# Altium footprint library V004.PcbLib: 4 footprints
Each footprint in its own frame and in the unit in brackets; x right, y up, seen from the top. Pads: shape width x height; smd on the part's side, far side on the other; paste and mask are expansions set on the pad; w line width, h text height; cw(c..) or ccw(c..) is an arc to the next point about the centre after c.
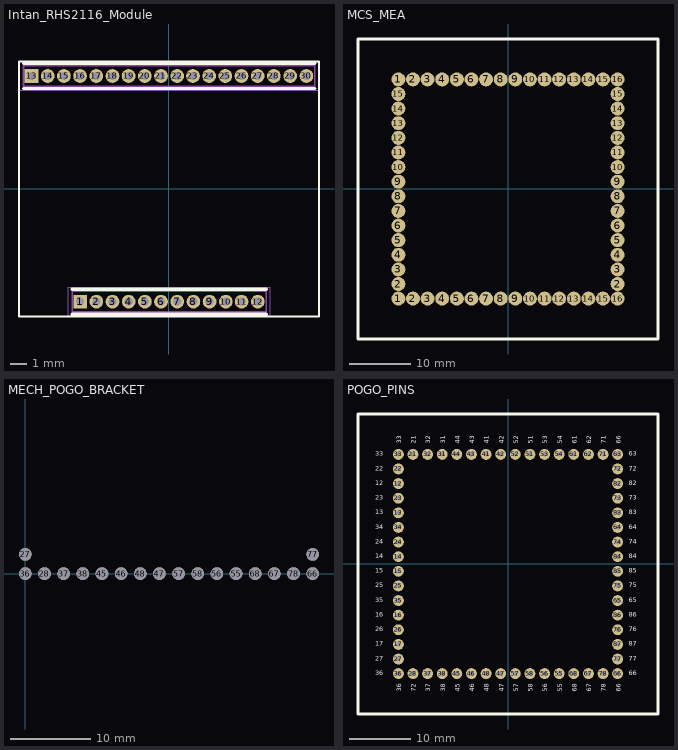
[diagram p0: the footprints below, top view; thin cyan lines are the x and y axes]

## Intan_RHS2116_Module [mm]
pads (30):
  rect 0.85x0.85 hole 0.5: 1(-5.488,-6.974) 13(-8.494,6.975)
  round 0.85 hole 0.5: 2(-4.488,-6.974) 3(-3.488,-6.974) 4(-2.488,-6.974) 5(-1.488,-6.974) 6(-0.488,-6.974) 7(0.512,-6.974) 8(1.512,-6.974) 9(2.512,-6.974) 10(3.512,-6.974) 11(4.489,-6.974) 12(5.489,-6.974) 14(-7.494,6.975) 15(-6.494,6.975) 16(-5.494,6.975) 17(-4.494,6.975) 18(-3.494,6.975) 19(-2.494,6.975) 20(-1.494,6.975) 21(-0.494,6.975) 22(0.506,6.975) 23(1.483,6.975) 24(2.483,6.975) 25(3.483,6.975) 26(4.483,6.975) 27(5.483,6.975) 28(6.483,6.975) 29(7.494,6.975) 30(8.494,6.975)
Top Layer:
  lines w0.254: -0.494,6.975 -0.38,6.86 ; 1.483,6.813 1.483,6.975 ; 4.483,6.884 4.483,6.975 ; 5.463,6.955 5.483,6.975
  lines w0.381: -1.443,-6.974 -1.443,-6.892 ; -0.443,-6.974 -0.443,-6.892 ; 0.467,-6.885 0.557,-6.974 ; 1.467,-6.885 1.557,-6.974 ; 3.526,-6.944 3.557,-6.974
Mid-Layer 1:
  lines w0.635: -5.551,-6.867 -5.443,-6.974 ; -4.484,-6.933 -4.443,-6.974 ; -3.443,-6.974 -3.443,-6.916
  lines w0.762: -2.46,-6.958 -2.443,-6.974
Top Overlay:
  lines w0.127: -9.269,-7.884 -9.269,7.864 9.273,7.864 9.273,-7.884 -9.269,-7.884
  lines w0.2: -8.994,6.2 9.006,6.2 ; -8.994,7.75 9.006,7.75 ; -5.988,-7.749 6.012,-7.749 ; -5.988,-6.199 6.012,-6.199
Top 3D Body:
  lines w0.1: -8.994,6.34 -8.994,7.61 9.006,7.61 9.006,6.34 -8.994,6.34 ; -5.988,-7.609 -5.988,-6.339 6.012,-6.339 6.012,-7.609 -5.988,-7.609
Top Courtyard:
  lines w0.05: 6.262,-7.859 -6.238,-7.859 -6.238,-6.09 6.262,-6.09 ; 6.262,-7.859 6.262,-6.09 ; 6.262,-7.859 6.262,-6.09 ; -9.244,6.09 -9.244,7.86 9.255,7.86 9.255,6.09 -9.244,6.09
3D body "Module_AFE.step": height 3.2, standoff -2.8, extent -9.269,-7.884 9.273,7.864

## MCS_MEA [mil]
pads (60):
  round 90 smd: 1(-705,-705) 1(-705,705) 2(-705,-611) 2(-611,-705) 2(-611,705) 2(705,-611) 3(-705,-517) 3(-517,-705) 3(-517,705) 3(705,-517) 4(-705,-423) 4(-423,-705) 4(-423,705) 4(705,-423) 5(-705,-329) 5(-329,-705) 5(-329,705) 5(705,-329) 6(-705,-235) 6(-235,-705) 6(-235,705) 6(705,-235) 7(-705,-141) 7(-141,-705) 7(-141,705) 7(705,-141) 8(-705,-47) 8(-47,-705) 8(-47,705) 8(705,-47) 9(-705,47) 9(47,-705) 9(47,705) 9(705,47) 10(-705,141) 10(141,-705) 10(141,705) 10(705,141) 11(-705,235) 11(235,-705) 11(235,705) 11(705,235) 12(-705,329) 12(329,-705) 12(329,705) 12(705,329) 13(-705,423) 13(423,-705) 13(423,705) 13(705,423) 14(-705,517) 14(517,-705) 14(517,705) 14(705,517) 15(-705,611) 15(611,-705) 15(611,705) 15(705,611) 16(705,-705) 16(705,705)
Top Overlay:
  lines w19.68: -964.57,-964.57 -964.57,964.57 964.57,964.57 964.57,-964.57 -964.57,-964.57

## MECH_POGO_BRACKET [mil]
pads (18):
  round 62 hole 62: 27(0,94) 28(94,0) 36(0,0) 37(188,0) 38(282,0) 45(376,0) 46(470,0) 47(658,0) 48(564,0) 55(1034,0) 56(940,0) 57(752,0) 58(846,0) 66(1410,0) 67(1222,0) 68(1128,0) 77(1410,94) 78(1316,0)

## POGO_PINS [mil]
pads (60):
  round 70 hole 29: 12(-705,517) 13(-705,329) 14(-705,47) 15(-705,-47) 16(-705,-329) 17(-705,-517) 21(-611,705) 22(-705,611) 23(-705,423) 24(-705,141) 25(-705,-141) 26(-705,-423) 27(-705,-611) 28(-611,-705) 31(-423,705) 32(-517,705) 33(-705,705) 34(-705,235) 35(-705,-235) 36(-705,-705) 37(-517,-705) 38(-423,-705) 41(-141,705) 42(-47,705) 43(-235,705) 44(-329,705) 45(-329,-705) 46(-235,-705) 47(-47,-705) 48(-141,-705) 51(141,705) 52(47,705) 53(235,705) 54(329,705) 55(329,-705) 56(235,-705) 57(47,-705) 58(141,-705) 61(423,705) 62(517,705) 63(705,705) 64(705,235) 65(705,-235) 66(705,-705) 67(517,-705) 68(423,-705) 71(611,705) 72(705,611) 73(705,423) 74(705,141) 75(705,-141) 76(705,-423) 77(705,-611) 78(611,-705) 82(705,517) 83(705,329) 84(705,47) 85(705,-47) 86(705,-329) 87(705,-517)
Top Overlay:
  lines w19.68: -964.57,-964.57 -964.57,964.57 964.57,964.57 964.57,-964.57 -964.57,-964.57
  text "66" at 723.5,774.85 h30
  text "71" at 629.5,774.85 h30
  text "62" at 535.5,774.85 h30
  text "61" at 441.5,774.85 h30
  text "54" at 347.5,774.85 h30
  text "53" at 253.5,774.85 h30
  text "51" at 159.5,774.85 h30
  text "52" at 65.5,774.85 h30
  text "42" at -28.5,774.85 h30
  text "41" at -122.5,774.85 h30
  text "43" at -216.5,774.85 h30
  text "44" at -310.5,774.85 h30
  text "31" at -404.5,774.85 h30
  text "32" at -498.5,774.85 h30
  text "21" at -592.5,774.85 h30
  text "33" at -686.5,774.85 h30
  text "66" at 723.5,-820.15 h30
  text "78" at 629.5,-820.15 h30
  text "67" at 535.5,-820.15 h30
  text "68" at 441.5,-820.15 h30
  text "55" at 347.5,-820.15 h30
  text "56" at 253.5,-820.15 h30
  text "58" at 159.5,-820.15 h30
  text "57" at 65.5,-820.15 h30
  text "47" at -28.5,-820.15 h30
  text "48" at -122.5,-820.15 h30
  text "46" at -216.5,-820.15 h30
  text "45" at -310.5,-820.15 h30
  text "38" at -404.5,-820.15 h30
  text "37" at -498.5,-820.15 h30
  text "72" at -592.5,-820.15 h30
  text "36" at -686.5,-820.15 h30
  text "66" at 775,-715 h30
  text "77" at 775,-621 h30
  text "87" at 775,-527 h30
  text "76" at 775,-433 h30
  text "86" at 775,-339 h30
  text "65" at 775,-245 h30
  text "75" at 775,-151 h30
  text "85" at 775,-57 h30
  text "84" at 775,37 h30
  text "74" at 775,131 h30
  text "64" at 775,225 h30
  text "83" at 775,319 h30
  text "73" at 775,413 h30
  text "82" at 775,507 h30
  text "72" at 775,601 h30
  text "63" at 775,695 h30
  text "36" at -855,-715 h30
  text "27" at -855,-621 h30
  text "17" at -855,-527 h30
  text "26" at -855,-433 h30
  text "16" at -855,-339 h30
  text "35" at -855,-245 h30
  text "25" at -855,-151 h30
  text "15" at -855,-57 h30
  text "14" at -855,37 h30
  text "24" at -855,131 h30
  text "34" at -855,225 h30
  text "13" at -855,319 h30
  text "23" at -855,413 h30
  text "12" at -855,507 h30
  text "22" at -855,601 h30
  text "33" at -855,695 h30
3D body "mill-max-0914-0-15-20-77-14-11-0.step": height 87, standoff -330, extent -741,-741 -669,-669
3D body "mill-max-0914-0-15-20-77-14-11-0.step": height 87, standoff -330, extent -647,-741 -575,-669
3D body "mill-max-0914-0-15-20-77-14-11-0.step": height 87, standoff -330, extent -553,-741 -481,-669
3D body "mill-max-0914-0-15-20-77-14-11-0.step": height 87, standoff -330, extent -459,-741 -387,-669
3D body "mill-max-0914-0-15-20-77-14-11-0.step": height 87, standoff -330, extent -365,-741 -293,-669
3D body "mill-max-0914-0-15-20-77-14-11-0.step": height 87, standoff -330, extent -271,-741 -199,-669
3D body "mill-max-0914-0-15-20-77-14-11-0.step": height 87, standoff -330, extent -177,-741 -105,-669
3D body "mill-max-0914-0-15-20-77-14-11-0.step": height 87, standoff -330, extent -83,-741 -11,-669
3D body "mill-max-0914-0-15-20-77-14-11-0.step": height 87, standoff -330, extent 11,-741 83,-669
3D body "mill-max-0914-0-15-20-77-14-11-0.step": height 87, standoff -330, extent 105,-741 177,-669
3D body "mill-max-0914-0-15-20-77-14-11-0.step": height 87, standoff -330, extent 199,-741 271,-669
3D body "mill-max-0914-0-15-20-77-14-11-0.step": height 87, standoff -330, extent 293,-741 365,-669
3D body "mill-max-0914-0-15-20-77-14-11-0.step": height 87, standoff -330, extent 387,-741 459,-669
3D body "mill-max-0914-0-15-20-77-14-11-0.step": height 87, standoff -330, extent 481,-741 553,-669
3D body "mill-max-0914-0-15-20-77-14-11-0.step": height 87, standoff -330, extent 575,-741 647,-669
3D body "mill-max-0914-0-15-20-77-14-11-0.step": height 87, standoff -330, extent 669,-741 741,-669
3D body "mill-max-0914-0-15-20-77-14-11-0.step": height 87, standoff -330, extent 669,-647 741,-575
3D body "mill-max-0914-0-15-20-77-14-11-0.step": height 87, standoff -330, extent 669,-553 741,-481
3D body "mill-max-0914-0-15-20-77-14-11-0.step": height 87, standoff -330, extent 669,-459 741,-387
3D body "mill-max-0914-0-15-20-77-14-11-0.step": height 87, standoff -330, extent 669,-365 741,-293
3D body "mill-max-0914-0-15-20-77-14-11-0.step": height 87, standoff -330, extent -741,-647 -669,-575
3D body "mill-max-0914-0-15-20-77-14-11-0.step": height 87, standoff -330, extent -741,-553 -669,-481
3D body "mill-max-0914-0-15-20-77-14-11-0.step": height 87, standoff -330, extent -741,-459 -669,-387
3D body "mill-max-0914-0-15-20-77-14-11-0.step": height 87, standoff -330, extent -741,-365 -669,-293
3D body "mill-max-0914-0-15-20-77-14-11-0.step": height 87, standoff -330, extent -741,-271 -669,-199
3D body "mill-max-0914-0-15-20-77-14-11-0.step": height 87, standoff -330, extent -741,-177 -669,-105
3D body "mill-max-0914-0-15-20-77-14-11-0.step": height 87, standoff -330, extent -741,-83 -669,-11
3D body "mill-max-0914-0-15-20-77-14-11-0.step": height 87, standoff -330, extent -741,11 -669,83
3D body "mill-max-0914-0-15-20-77-14-11-0.step": height 87, standoff -330, extent -741,105 -669,177
3D body "mill-max-0914-0-15-20-77-14-11-0.step": height 87, standoff -330, extent -741,199 -669,271
3D body "mill-max-0914-0-15-20-77-14-11-0.step": height 87, standoff -330, extent -741,293 -669,365
3D body "mill-max-0914-0-15-20-77-14-11-0.step": height 87, standoff -330, extent -741,387 -669,459
3D body "mill-max-0914-0-15-20-77-14-11-0.step": height 87, standoff -330, extent -741,481 -669,553
3D body "mill-max-0914-0-15-20-77-14-11-0.step": height 87, standoff -330, extent -741,575 -669,647
3D body "mill-max-0914-0-15-20-77-14-11-0.step": height 87, standoff -330, extent -741,669 -669,741
3D body "mill-max-0914-0-15-20-77-14-11-0.step": height 87, standoff -330, extent -647,669 -575,741
3D body "mill-max-0914-0-15-20-77-14-11-0.step": height 87, standoff -330, extent -553,669 -481,741
3D body "mill-max-0914-0-15-20-77-14-11-0.step": height 87, standoff -330, extent -459,669 -387,741
3D body "mill-max-0914-0-15-20-77-14-11-0.step": height 87, standoff -330, extent -365,669 -293,741
3D body "mill-max-0914-0-15-20-77-14-11-0.step": height 87, standoff -330, extent -271,669 -199,741
3D body "mill-max-0914-0-15-20-77-14-11-0.step": height 87, standoff -330, extent -177,669 -105,741
3D body "mill-max-0914-0-15-20-77-14-11-0.step": height 87, standoff -330, extent -83,669 -11,741
3D body "mill-max-0914-0-15-20-77-14-11-0.step": height 87, standoff -330, extent 11,669 83,741
3D body "mill-max-0914-0-15-20-77-14-11-0.step": height 87, standoff -330, extent 105,669 177,741
3D body "mill-max-0914-0-15-20-77-14-11-0.step": height 87, standoff -330, extent 199,669 271,741
3D body "mill-max-0914-0-15-20-77-14-11-0.step": height 87, standoff -330, extent 293,669 365,741
3D body "mill-max-0914-0-15-20-77-14-11-0.step": height 87, standoff -330, extent 387,669 459,741
3D body "mill-max-0914-0-15-20-77-14-11-0.step": height 87, standoff -330, extent 481,669 553,741
3D body "mill-max-0914-0-15-20-77-14-11-0.step": height 87, standoff -330, extent 575,669 647,741
3D body "mill-max-0914-0-15-20-77-14-11-0.step": height 87, standoff -330, extent 669,669 741,741
3D body "mill-max-0914-0-15-20-77-14-11-0.step": height 87, standoff -330, extent 669,575 741,647
3D body "mill-max-0914-0-15-20-77-14-11-0.step": height 87, standoff -330, extent 669,481 741,553
3D body "mill-max-0914-0-15-20-77-14-11-0.step": height 87, standoff -330, extent 669,387 741,459
3D body "mill-max-0914-0-15-20-77-14-11-0.step": height 87, standoff -330, extent 669,293 741,365
3D body "mill-max-0914-0-15-20-77-14-11-0.step": height 87, standoff -330, extent 669,199 741,271
3D body "mill-max-0914-0-15-20-77-14-11-0.step": height 87, standoff -330, extent 669,105 741,177
3D body "mill-max-0914-0-15-20-77-14-11-0.step": height 87, standoff -330, extent 669,11 741,83
3D body "mill-max-0914-0-15-20-77-14-11-0.step": height 87, standoff -330, extent 669,-83 741,-11
3D body "mill-max-0914-0-15-20-77-14-11-0.step": height 87, standoff -330, extent 669,-177 741,-105
3D body "mill-max-0914-0-15-20-77-14-11-0.step": height 87, standoff -330, extent 669,-271 741,-199